# EAGLE library part XCF00S-VO20-C (library Xilinx)
Platform Flash In-System Programmable Configuration PROM
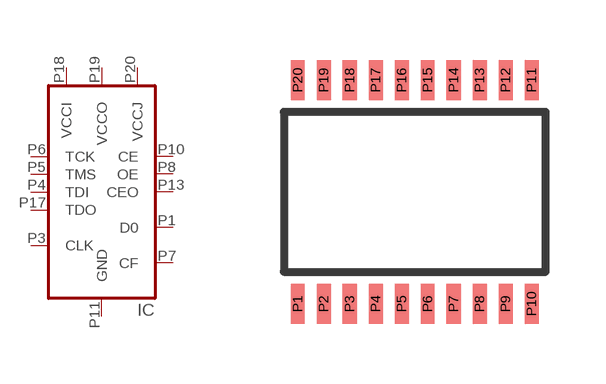
[diagram p21: symbol with the pads of TSOP-VO20; footprint TSOP-VO20]

Designator prefix IC

## XCF00S-VO20-C  [TSOP-VO20]
P1  D0
P3  CLK
P4  TDI
P5  TMS
P6  TCK
P7  CF
P8  OE
P10  CE
P11  GND
P13  CEO
P17  TDO
P18  VCCI
P19  VCCO
P20  VCCJ

## Footprint TSOP-VO20 (pad centres in mm)
20 pin TSOP package, Xilinx variant VO
smd 0.35 x 1: P1 -2.95,-2.8; P2 -2.3,-2.8; P3 -1.65,-2.8; P4 -1,-2.8; P5 -0.35,-2.8; P6 0.3,-2.8; P7 0.95,-2.8; P8 1.6,-2.8; P9 2.25,-2.8; P10 2.9,-2.8; P11 2.9,2.8; P12 2.25,2.8; P13 1.6,2.8; P14 0.95,2.8; P15 0.3,2.8; P16 -0.35,2.8; P17 -1,2.8; P18 -1.65,2.8; P19 -2.3,2.8; P20 -2.95,2.8